# EAGLE library part XC9572PC84 (library XILINX)
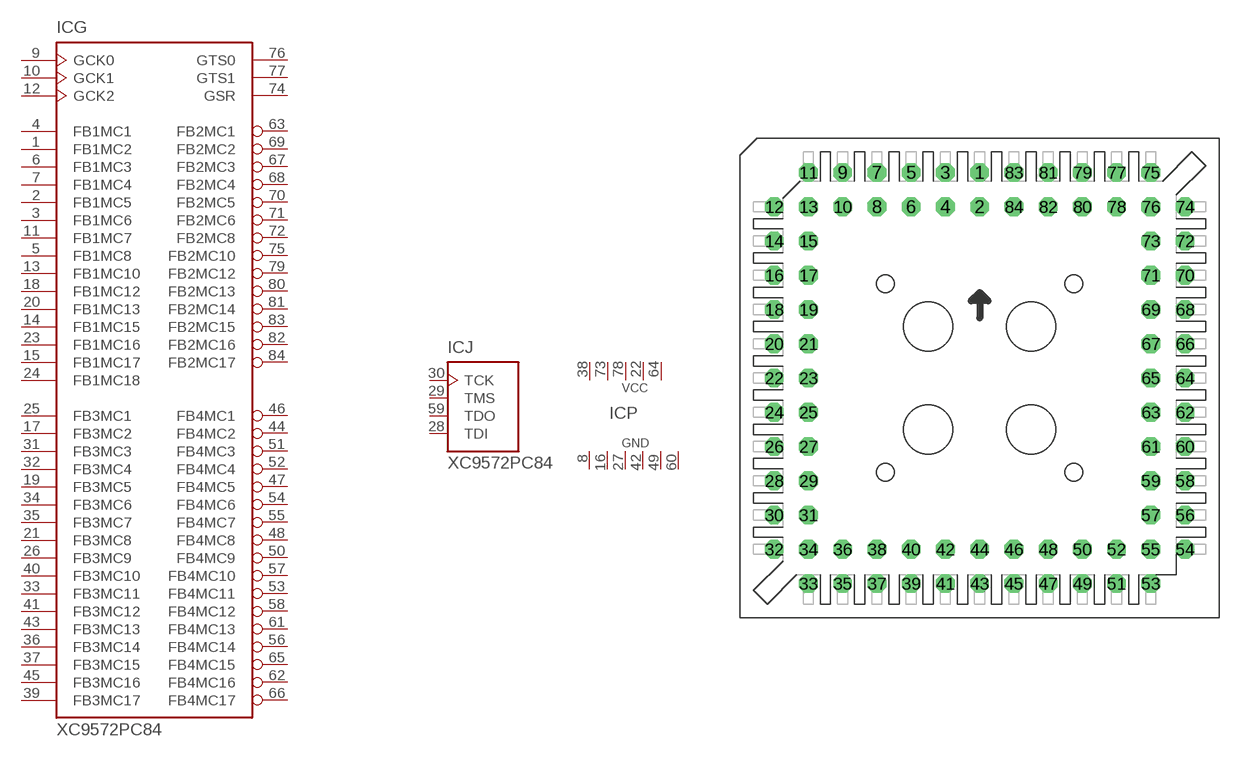
[diagram p1: symbol with the pads of PLCC-S84; footprint PLCC-S84]

Designator prefix IC; gates J=JTAG P=PWR11 G=XC9572

## XC9572PC84  [PLCC-S84]
1  G:FB1MC2
2  G:FB1MC5
3  G:FB1MC6
4  G:FB1MC1
5  G:FB1MC8
6  G:FB1MC3
7  G:FB1MC4
8  P:GND  pwr
9  G:GCK0  in
10  G:GCK1  in
11  G:FB1MC7
12  G:GCK2  in
13  G:FB1MC10
14  G:FB1MC15
15  G:FB1MC17
16  P:GND  pwr
17  G:FB3MC2
18  G:FB1MC12
19  G:FB3MC5
20  G:FB1MC13
21  G:FB3MC8
22  P:VCC  pwr
23  G:FB1MC16
24  G:FB1MC18
25  G:FB3MC1
26  G:FB3MC9
27  P:GND  pwr
28  J:TDI  in
29  J:TMS  in
30  J:TCK  in
31  G:FB3MC3
32  G:FB3MC4
33  G:FB3MC11
34  G:FB3MC6
35  G:FB3MC7
36  G:FB3MC14
37  G:FB3MC15
38  P:VCC  pwr
39  G:FB3MC17
40  G:FB3MC10
41  G:FB3MC12
42  P:GND  pwr
43  G:FB3MC13
44  G:FB4MC2
45  G:FB3MC16
46  G:FB4MC1
47  G:FB4MC5
48  G:FB4MC8
49  P:GND  pwr
50  G:FB4MC9
51  G:FB4MC3
52  G:FB4MC4
53  G:FB4MC11
54  G:FB4MC6
55  G:FB4MC7
56  G:FB4MC14
57  G:FB4MC10
58  G:FB4MC12
59  J:TDO  out
60  P:GND  pwr
61  G:FB4MC13
62  G:FB4MC16
63  G:FB2MC1
64  P:VCC  pwr
65  G:FB4MC15
66  G:FB4MC17
67  G:FB2MC3
68  G:FB2MC4
69  G:FB2MC2
70  G:FB2MC5
71  G:FB2MC6
72  G:FB2MC8
73  P:VCC  pwr
74  G:GSR  in
75  G:FB2MC10
76  G:GTS0  in
77  G:GTS1  in
78  P:VCC  pwr
79  G:FB2MC12
80  G:FB2MC13
81  G:FB2MC14
82  G:FB2MC16
83  G:FB2MC15
84  G:FB2MC17

## Footprint PLCC-S84 (pad centres in mm)
drill 0.813 pad 1.397 octagon: 1 0,15.24; 2 0,12.7; 3 -2.54,15.24; 4 -2.54,12.7; 5 -5.08,15.24; 6 -5.08,12.7; 7 -7.62,15.24; 8 -7.62,12.7; 9 -10.16,15.24; 10 -10.16,12.7; 11 -12.7,15.24; 12 -15.24,12.7; 13 -12.7,12.7; 14 -15.24,10.16; 15 -12.7,10.16; 16 -15.24,7.62; 17 -12.7,7.62; 18 -15.24,5.08; 19 -12.7,5.08; 20 -15.24,2.54; 21 -12.7,2.54; 22 -15.24,0; 23 -12.7,0; 24 -15.24,-2.54; 25 -12.7,-2.54; 26 -15.24,-5.08; 27 -12.7,-5.08; 28 -15.24,-7.62; 29 -12.7,-7.62; 30 -15.24,-10.16; 31 -12.7,-10.16; 32 -15.24,-12.7; 33 -12.7,-15.24; 34 -12.7,-12.7; 35 -10.16,-15.24; 36 -10.16,-12.7; 37 -7.62,-15.24; 38 -7.62,-12.7; 39 -5.08,-15.24; 40 -5.08,-12.7; 41 -2.54,-15.24; 42 -2.54,-12.7; 43 0,-15.24; 44 0,-12.7; 45 2.54,-15.24; 46 2.54,-12.7; 47 5.08,-15.24; 48 5.08,-12.7; 49 7.62,-15.24; 50 7.62,-12.7; 51 10.16,-15.24; 52 10.16,-12.7; 53 12.7,-15.24; 54 15.24,-12.7; 55 12.7,-12.7; 56 15.24,-10.16; 57 12.7,-10.16; 58 15.24,-7.62; 59 12.7,-7.62; 60 15.24,-5.08; 61 12.7,-5.08; 62 15.24,-2.54; 63 12.7,-2.54; 64 15.24,0; 65 12.7,0; 66 15.24,2.54; 67 12.7,2.54; 68 15.24,5.08; 69 12.7,5.08; 70 15.24,7.62; 71 12.7,7.62; 72 15.24,10.16; 73 12.7,10.16; 74 15.24,12.7; 75 12.7,15.24; 76 12.7,12.7; 77 10.16,15.24; 78 10.16,12.7; 79 7.62,15.24; 80 7.62,12.7; 81 5.08,15.24; 82 5.08,12.7; 83 2.54,15.24; 84 2.54,12.7